# Altium integrated library Linear Technology Power Management Switching Regulator LTC1174-LTC3901.IntLib: 2647 symbols (part 236 of 364)
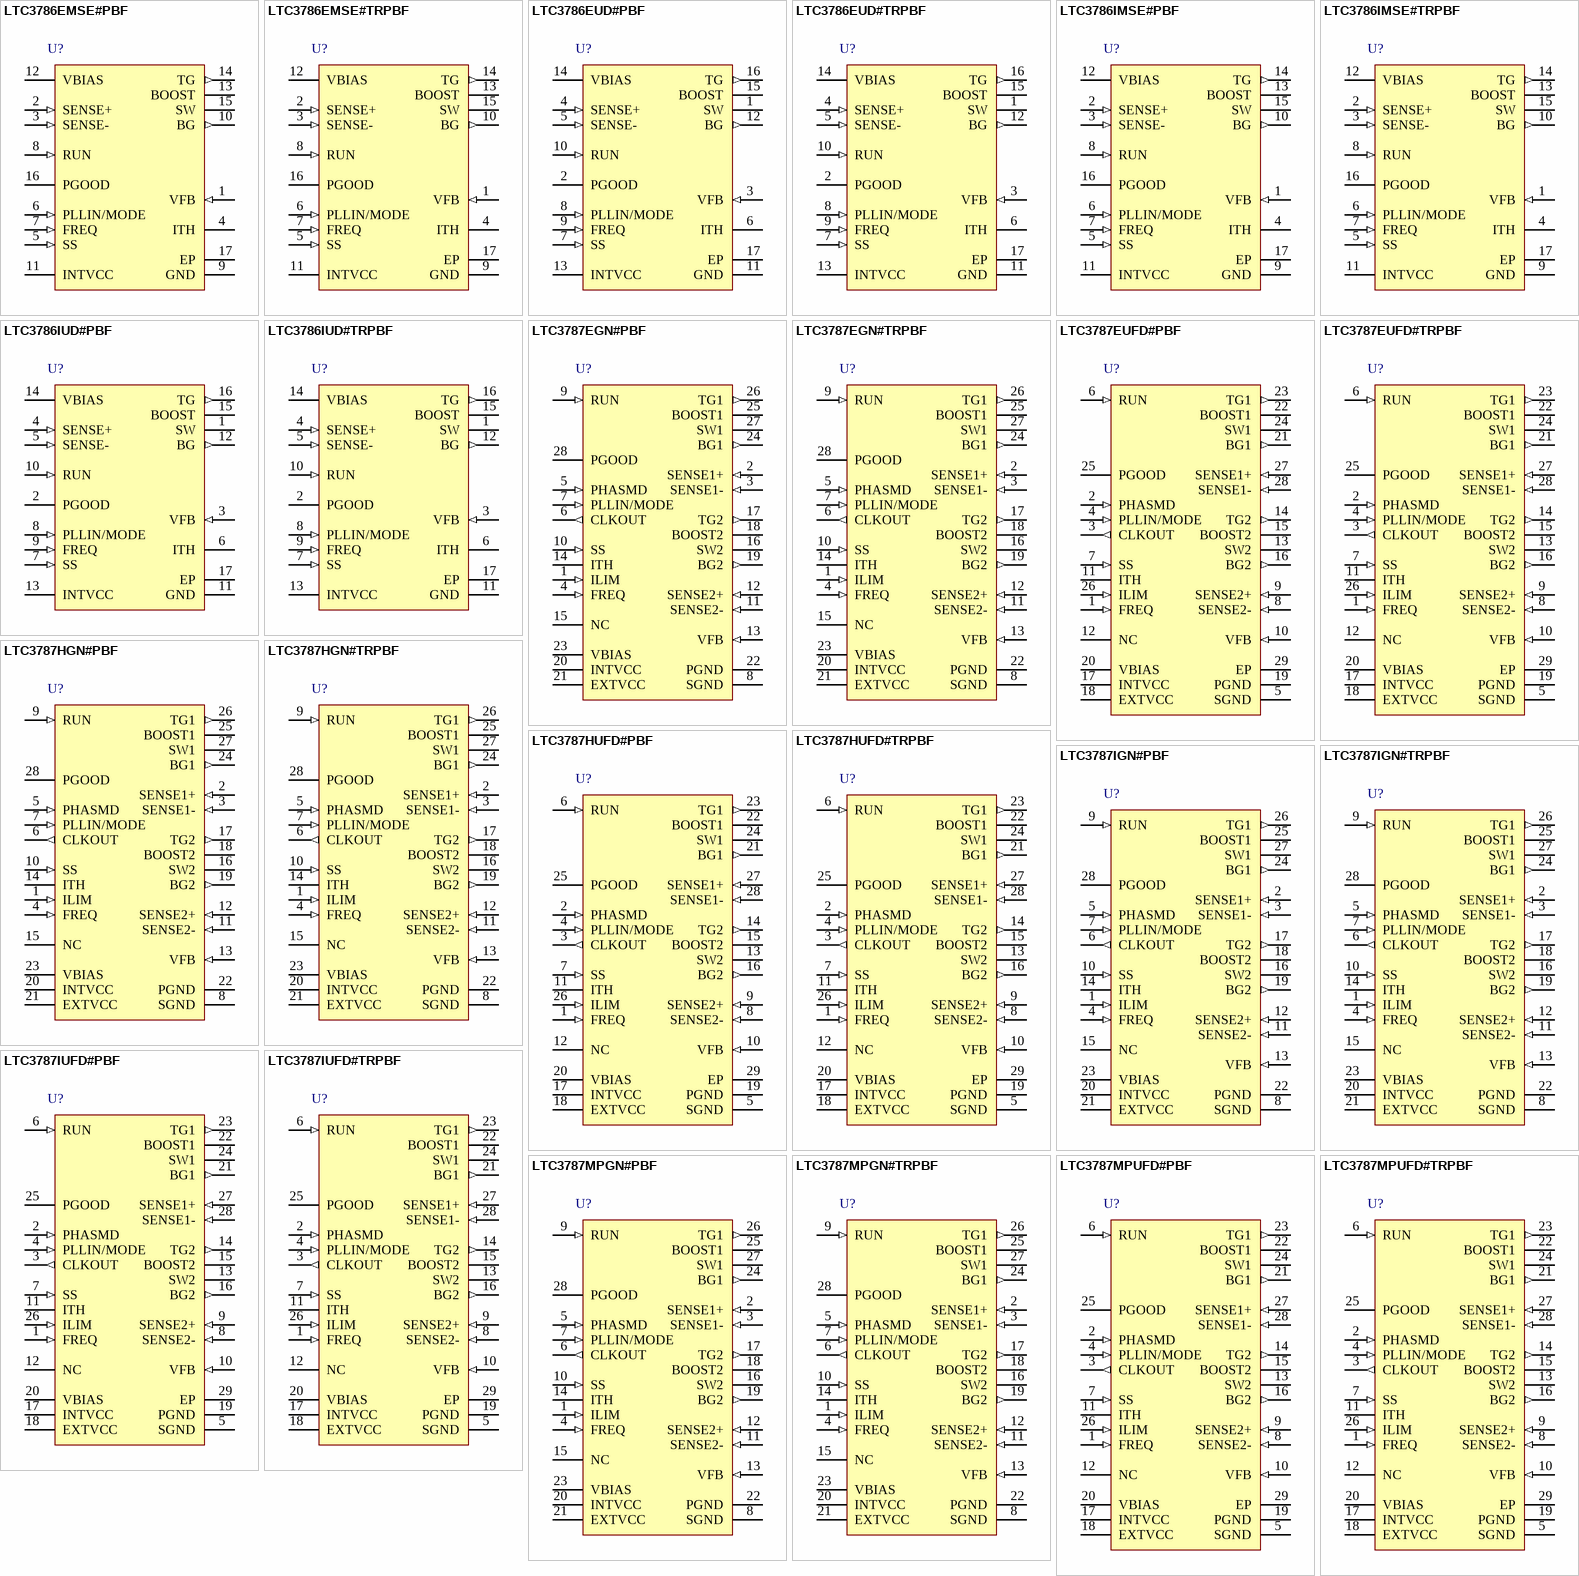
[diagram p237: symbols LTC3786EMSE#PBF to LTC3787MPUFD#TRPBF]

## LTC3787HUFD#PBF
designator U?
2-Phase, Sync Boost Controller, 28-pin QFN (UFD-28), -40 to 150 degC, Pb-Free; Manufacturer: Linear Technology; PartNumber: LTC3787HUFD#PBF; Frequency Sync Range: 75kHz - 850kHz; Number of Outputs: 1; DatasheetVersion: Rev. C; PackageVersion: Rev. B, 06/2010; PackageReference: UFD-28; PackageDescription: 28-Pin Plastic QFN, Body 5 x 4 mm, Pitch 0.5 mm; Supplier 1: Digi-Key; Supplier Part Number 1: LTC3787HUFD#PBF-ND; Supplier 2: Newark; Supplier Part Number 2: 94T1267; RoHS: TRUE; Mounting Technology: Surface Mount; Code_JEDEC: MO-220; ComponentLink1Description: Manufacturer URL; ComponentLink1URL: http://www.linear.com/; ComponentLink2Description: Datasheet; ComponentLink2URL: http://cds.linear.com/docs/en/datasheet/3787fc.pdf; ComponentLink3Description: Package Specification; ComponentLink3URL: http://cds.linear.com/docs/en/packaging/QFN_28_05-08-1712.pdf
footprint LT-UFD-28_N (QFN, 28-Leads, Body 5.1x4.1mm, Pitch 0.5mm, Thermal Pad 3.65x2.65mm, IPC Medium Density)
footprint LT-UFD-28_L (QFN, 28-Leads, Body 5.1x4.1mm, Pitch 0.5mm, Thermal Pad 3.65x2.65mm, IPC High Density)
footprint LT-UFD-28_M (QFN, 28-Leads, Body 5.1x4.1mm, Pitch 0.5mm, Thermal Pad 3.65x2.65mm, IPC Low Density)
pins: 1 FREQ (in) "Frequency Control Pin for the Internal  VCO. Connecting the pin to GND forces the VCO to a fixed  low frequency of 350kHz. Connecting the pin to INTVCC  forces the VCO to a fixed high frequency of 535kHz. The  frequency can (See Datasheet)", 2 PHASMD (in) "This pin can be floated, tied to  SGND, or tied to INTVCC to program the phase relationship  between the rising edges of BG1 and BG2, as well as the  phase relationship between BG1 and CLKOUT.", 3 CLKOUT (out) "A Digital Output Used for Daisychaining Multiple LTC3787 ICs in Multiphase Systems. The  PHASMD pin voltage controls the relationship between BG1  and CLKOUT. This pin swings between SGND and INTVCC.", 4 PLLIN/MODE (in) "External Synchronization Input  to Phase Detector and Forced Continuous Mode Input.  When an external clock is applied to this pin, it will force  the controller into forced continuous mode of operation  and the phase-locked (See Datasheet)", 5 SGND (power) "Signal Ground. All small-signal  components and compensation components should  connect to this ground, which in turn connects to PGND  at a single point.", 6 RUN (in) "Run Control Input. Forcing this pin  below 1.28V shuts down the controller. Forcing this pin  below 0.7V shuts down the entire LTC3787, reducing  quiescent current to approximately 8uA. An external  resistor divider (See Datasheet)", 7 SS (in) "Output Soft-Start Input. A capacitor to  ground at this pin sets the ramp rate of the output voltage  during start-up.", 8 SENSE2- (in) "Negative Current Sense Comparator Input. The (-) input to the  current comparator is normally connected to the negative  terminal of a current sense resistor connected in series  with the inductor", 9 SENSE2+ (in) "Positive Current Sense Comparator Input. The (+) input to the  current comparator is normally connected to the positive  terminal of a current sense resistor. The current sense resistor is normally placed at the input of the (See Datasheet)", 10 VFB (in) "Error Amplifier Feedback Input. This  pin receives the remotely sensed feedback voltage from  an external resistive divider connected across the output.", 11 ITH "Current Control Threshold and Error  Amplifier Compensation Point. The voltage on this pin sets  the current trip threshold.", 12 NC "No Connect.", 13 SW2 "Switch Node.  Connect to the source of the synchronous N-channel  MOSFET, the drain of the main N-channel MOSFET and  the inductor", 14 TG2 (out) "Top Gate. Connect to the gate of the synchronous N-channel MOSFET", 15 BOOST2 "Floating power supply for the synchronous N-channel MOSFET.  Bypass to SW with a capacitor and supply with a Schottky  diode connected to INTVCC.", 16 BG2 (out) "Bottom Gate.  Connect to the gate of the main N-channel MOSFET.", 17 INTVCC (power) "Output of Internal 5.4V LDO.  Power supply for control circuits and gate drivers. Decouple this pin to GND with a minimum 4.7uF low ESR  ceramic capacitor.", 18 EXTVCC (power) "External Power Input. When this  pin is between 4.8V and 6V, an internal switch bypasses  the internal regulator and supply power to INTVCC directly  from EXTVCC. Do not float this pin. It can be connected to  ground when (See Datasheet)", 19 PGND (power) "Driver Power Ground. Connects  to the sources of bottom (main) N-channel MOSFETs and  the (-) terminal(s) of CIN and COUT.", 20 VBIAS (power) "Main Supply Pin. It is normally  tied to the input supply VIN or to the output of the boost  converter. A bypass capacitor should be tied between this  pin and the signal ground pin. The operating voltage range  on this pin (See Datasheet)", 21 BG1 (out) "Bottom Gate.  Connect to the gate of the main N-channel MOSFET.", 22 BOOST1 "Floating power supply for the synchronous N-channel MOSFET.  Bypass to SW with a capacitor and supply with a Schottky  diode connected to INTVCC.", 23 TG1 (out) "Top Gate. Connect to the gate of the synchronous N-channel MOSFET", 24 SW1 "Switch Node.  Connect to the source of the synchronous N-channel  MOSFET, the drain of the main N-channel MOSFET and  the inductor", 25 PGOOD (oc) "Power Good Indicator. Open-drain  logic output that is pulled to ground when the output voltage is more than +/-10 % away from the regulated output  voltage. To avoid false trips the output voltage must be  outside the range (See Datasheet)", 26 ILIM (in) "Current Comparator Sense Voltage  Range Input. This pin is used to set the peak current  sense voltage in the current comparator. Connect this pin  to SGND, open, and INTVCC to set the peak current sense  voltage to 50mV, (See Datasheet)", 27 SENSE1+ (in) "Positive Current Sense Comparator Input. The (+) input to the  current comparator is normally connected to the positive  terminal of a current sense resistor. The current sense resistor is normally placed at the input of the (See Datasheet)", 28 SENSE1- (in) "Negative Current Sense Comparator Input. The (-) input to the  current comparator is normally connected to the negative  terminal of a current sense resistor connected in series  with the inductor", 29 EP (power) "Must  be soldered to the PCB for rated thermal performance."

## LTC3787HUFD#TRPBF
designator U?
2-Phase, Sync Boost Controller, 28-pin QFN (UFD-28), -40 to 150 degC, Pb-Free, Tape and Reel; Manufacturer: Linear Technology; PartNumber: LTC3787HUFD#TRPBF; Frequency Sync Range: 75kHz - 850kHz; Number of Outputs: 1; DatasheetVersion: Rev. C; PackageVersion: Rev. B, 06/2010; PackageReference: UFD-28; PackageDescription: 28-Pin Plastic QFN, Body 5 x 4 mm, Pitch 0.5 mm; Supplier 1: Digi-Key; Supplier Part Number 1: LTC3787HUFD#TRPBF-ND; Supplier 2: Newark; Supplier Part Number 2: 94T1268; Packing: Tape and Reel; RoHS: TRUE; Mounting Technology: Surface Mount; Code_JEDEC: MO-220; ComponentLink1Description: Manufacturer URL; ComponentLink1URL: http://www.linear.com/; ComponentLink2Description: Datasheet; ComponentLink2URL: http://cds.linear.com/docs/en/datasheet/3787fc.pdf; ComponentLink3Description: Package Specification; ComponentLink3URL: http://cds.linear.com/docs/en/packaging/QFN_28_05-08-1712.pdf
footprint LT-UFD-28_N (QFN, 28-Leads, Body 5.1x4.1mm, Pitch 0.5mm, Thermal Pad 3.65x2.65mm, IPC Medium Density)
footprint LT-UFD-28_L (QFN, 28-Leads, Body 5.1x4.1mm, Pitch 0.5mm, Thermal Pad 3.65x2.65mm, IPC High Density)
footprint LT-UFD-28_M (QFN, 28-Leads, Body 5.1x4.1mm, Pitch 0.5mm, Thermal Pad 3.65x2.65mm, IPC Low Density)
pins: 1 FREQ (in) "Frequency Control Pin for the Internal  VCO. Connecting the pin to GND forces the VCO to a fixed  low frequency of 350kHz. Connecting the pin to INTVCC  forces the VCO to a fixed high frequency of 535kHz. The  frequency can (See Datasheet)", 2 PHASMD (in) "This pin can be floated, tied to  SGND, or tied to INTVCC to program the phase relationship  between the rising edges of BG1 and BG2, as well as the  phase relationship between BG1 and CLKOUT.", 3 CLKOUT (out) "A Digital Output Used for Daisychaining Multiple LTC3787 ICs in Multiphase Systems. The  PHASMD pin voltage controls the relationship between BG1  and CLKOUT. This pin swings between SGND and INTVCC.", 4 PLLIN/MODE (in) "External Synchronization Input  to Phase Detector and Forced Continuous Mode Input.  When an external clock is applied to this pin, it will force  the controller into forced continuous mode of operation  and the phase-locked (See Datasheet)", 5 SGND (power) "Signal Ground. All small-signal  components and compensation components should  connect to this ground, which in turn connects to PGND  at a single point.", 6 RUN (in) "Run Control Input. Forcing this pin  below 1.28V shuts down the controller. Forcing this pin  below 0.7V shuts down the entire LTC3787, reducing  quiescent current to approximately 8uA. An external  resistor divider (See Datasheet)", 7 SS (in) "Output Soft-Start Input. A capacitor to  ground at this pin sets the ramp rate of the output voltage  during start-up.", 8 SENSE2- (in) "Negative Current Sense Comparator Input. The (-) input to the  current comparator is normally connected to the negative  terminal of a current sense resistor connected in series  with the inductor", 9 SENSE2+ (in) "Positive Current Sense Comparator Input. The (+) input to the  current comparator is normally connected to the positive  terminal of a current sense resistor. The current sense resistor is normally placed at the input of the (See Datasheet)", 10 VFB (in) "Error Amplifier Feedback Input. This  pin receives the remotely sensed feedback voltage from  an external resistive divider connected across the output.", 11 ITH "Current Control Threshold and Error  Amplifier Compensation Point. The voltage on this pin sets  the current trip threshold.", 12 NC "No Connect.", 13 SW2 "Switch Node.  Connect to the source of the synchronous N-channel  MOSFET, the drain of the main N-channel MOSFET and  the inductor", 14 TG2 (out) "Top Gate. Connect to the gate of the synchronous N-channel MOSFET", 15 BOOST2 "Floating power supply for the synchronous N-channel MOSFET.  Bypass to SW with a capacitor and supply with a Schottky  diode connected to INTVCC.", 16 BG2 (out) "Bottom Gate.  Connect to the gate of the main N-channel MOSFET.", 17 INTVCC (power) "Output of Internal 5.4V LDO.  Power supply for control circuits and gate drivers. Decouple this pin to GND with a minimum 4.7uF low ESR  ceramic capacitor.", 18 EXTVCC (power) "External Power Input. When this  pin is between 4.8V and 6V, an internal switch bypasses  the internal regulator and supply power to INTVCC directly  from EXTVCC. Do not float this pin. It can be connected to  ground when (See Datasheet)", 19 PGND (power) "Driver Power Ground. Connects  to the sources of bottom (main) N-channel MOSFETs and  the (-) terminal(s) of CIN and COUT.", 20 VBIAS (power) "Main Supply Pin. It is normally  tied to the input supply VIN or to the output of the boost  converter. A bypass capacitor should be tied between this  pin and the signal ground pin. The operating voltage range  on this pin (See Datasheet)", 21 BG1 (out) "Bottom Gate.  Connect to the gate of the main N-channel MOSFET.", 22 BOOST1 "Floating power supply for the synchronous N-channel MOSFET.  Bypass to SW with a capacitor and supply with a Schottky  diode connected to INTVCC.", 23 TG1 (out) "Top Gate. Connect to the gate of the synchronous N-channel MOSFET", 24 SW1 "Switch Node.  Connect to the source of the synchronous N-channel  MOSFET, the drain of the main N-channel MOSFET and  the inductor", 25 PGOOD (oc) "Power Good Indicator. Open-drain  logic output that is pulled to ground when the output voltage is more than +/-10 % away from the regulated output  voltage. To avoid false trips the output voltage must be  outside the range (See Datasheet)", 26 ILIM (in) "Current Comparator Sense Voltage  Range Input. This pin is used to set the peak current  sense voltage in the current comparator. Connect this pin  to SGND, open, and INTVCC to set the peak current sense  voltage to 50mV, (See Datasheet)", 27 SENSE1+ (in) "Positive Current Sense Comparator Input. The (+) input to the  current comparator is normally connected to the positive  terminal of a current sense resistor. The current sense resistor is normally placed at the input of the (See Datasheet)", 28 SENSE1- (in) "Negative Current Sense Comparator Input. The (-) input to the  current comparator is normally connected to the negative  terminal of a current sense resistor connected in series  with the inductor", 29 EP (power) "Must  be soldered to the PCB for rated thermal performance."

## LTC3787IGN#PBF
designator U?
2-Phase, Sync Boost Controller, 28-pin SOP (GN-28), -40 to 125 degC, Pb-Free; Manufacturer: Linear Technology; PartNumber: LTC3787IGN#PBF; Frequency Sync Range: 75kHz - 850kHz; Number of Outputs: 1; DatasheetVersion: Rev. C; PackageVersion: Rev. B, 03/2012; PackageReference: GN-28; PackageDescription: 28-Pin Plastic SSOP, Body 9.9 x 3.9 mm, Pitch 0.635 mm; Supplier 1: Digi-Key; Supplier Part Number 1: LTC3787IGN#PBF-ND; RoHS: TRUE; Mounting Technology: Surface Mount; ComponentLink1Description: Manufacturer URL; ComponentLink1URL: http://www.linear.com/; ComponentLink2Description: Datasheet; ComponentLink2URL: http://cds.linear.com/docs/en/datasheet/3787fc.pdf; ComponentLink3Description: Package Specification; ComponentLink3URL: http://cds.linear.com/docs/en/packaging/05081641_B_GN28.pdf
footprint LT-GN-28_N (SOP, 28-Leads, Body 9.98x3.98mm, Pitch 0.635mm, IPC Medium Density)
footprint LT-GN-28_L (SOP, 28-Leads, Body 9.98x3.98mm, Pitch 0.635mm, IPC High Density)
footprint LT-GN-28_M (SOP, 28-Leads, Body 9.98x3.98mm, Pitch 0.635mm, IPC Low Density)
pins: 1 ILIM (in) "Current Comparator Sense Voltage Range Input. This pin is used to set the peak current sense voltage in the current comparator. Connect this pin to SGND, open, and INTVCC to set the peak current sense voltage to 50mV, 75mV (See Datasheet)", 2 SENSE1+ (in) "Positive Current Sense Comparator Input. The (+) input to the current comparator is normally connected to the positive terminal of a current sense resistor. The current sense resistor is normally placed at the input of the (See Datasheet)", 3 SENSE1- (in) "Negative Current Sense Comparator Input. The (-) input to the current comparator is normally connected to the negative terminal of a current sense resistor connected in series with the inductor.", 4 FREQ (in) "Frequency Control Pin for the Internal VCO. Connecting the pin to GND forces the VCO to a fixed low frequency of 350kHz. Connecting the pin to INTVCC forces the VCO to a fixed high frequency of 535kHz. The frequency can be (See Datasheet)", 5 PHASMD (in) "This pin can be floated, tied to SGND, or tied to INTVCC to program the phase relationship between the rising edges of BG1 and BG2, as well as the phase relationship between BG1 and CLKOUT.", 6 CLKOUT (out) "A Digital Output Used for Daisychaining Multiple LTC3787 ICs in Multiphase Systems. The PHASMD pin voltage controls the relationship between BG1 and CLKOUT. This pin swings between SGND and INTVCC.", 7 PLLIN/MODE (in), 8 SGND (power) "Signal Ground. All small-signal components and compensation components should connect to this ground, which in turn connects to PGND at a single point.", 9 RUN (in) "Run Control Input. Forcing this pin below 1.28V shuts down the controller. Forcing this pin below 0.7V shuts down the entire LTC3787, reducing quiescent current to approximately 8uA. An external resistor divider connected to (See Datasheet)", 10 SS (in) "Output Soft-Start Input. A capacitor to ground at this pin sets the ramp rate of the output voltage during start-up.", 11 SENSE2- (in) "Negative Current Sense Comparator Input. The (-) input to the current comparator is normally connected to the negative terminal of a current sense resistor connected in series with the inductor.", 12 SENSE2+ (in) "Positive Current Sense Comparator Input. The (+) input to the current comparator is normally connected to the positive terminal of a current sense resistor. The current sense resistor is normally placed at the input of the (See Datasheet)", 13 VFB (in) "Error Amplifier Feedback Input. This pin receives the remotely sensed feedback voltage from an external resistive divider connected across the output.", 14 ITH "Current Control Threshold and Error Amplifier Compensation Point. The voltage on this pin sets the current trip threshold.", 15 NC "No Connect.", 16 SW2 "Switch Node. Connect to the source of the synchronous N-channel MOSFET, the drain of the main N-channel MOSFET and the inductor.", 17 TG2 (out) "Top Gate. Connect to the gate of the synchronous N-channel MOSFET.", 18 BOOST2 "Floating power supply for the synchronous N-channel MOSFET. Bypass to SW with a capacitor and supply with a Schottky diode connected to INTVCC.", 19 BG2 (out) "Bottom Gate. Connect to the gate of the main N-channel MOSFET.", 20 INTVCC (power) "Output of Internal 5.4V LDO. Power supply for control circuits and gate drivers. Decouple this pin to GND with a minimum 4.7uF low ESR ceramic capacitor.", 21 EXTVCC (power) "External Power Input. When this pin is between 4.8V and 6V, an internal switch bypasses the internal regulator and supply power to INTVCC directly from EXTVCC. Do not float this pin. It can be connected to ground when not (See Datasheet)", 22 PGND (power) "Driver Power Ground. Connects to the sources of bottom (main) N-channel MOSFETs and the (-) terminal(s) of CIN and COUT.", 23 VBIAS (power) "Main Supply Pin. It is normally tied to the input supply VIN or to the output of the boost converter. A bypass capacitor should be tied between this pin and the signal ground pin. The operating voltage range on this pin is 4.(See Datasheet)", 24 BG1 (out) "Bottom Gate. Connect to the gate of the main N-channel MOSFET.", 25 BOOST1 "Floating power supply for the synchronous N-channel MOSFET. Bypass to SW with a capacitor and supply with a Schottky diode connected to INTVCC.", 26 TG1 (out) "Top Gate. Connect to the gate of the synchronous N-channel MOSFET.", 27 SW1 "Switch Node. Connect to the source of the synchronous N-channel MOSFET, the drain of the main N-channel MOSFET and the inductor.", 28 PGOOD (oc) "Power Good Indicator. Open-drain logic output that is pulled to ground when the output voltage is more than +/-10 % away from the regulated output voltage. To avoid false trips the output voltage must be outside the range (See Datasheet)"

## LTC3787IGN#TRPBF
designator U?
2-Phase, Sync Boost Controller, 28-pin SOP (GN-28), -40 to 125 degC, Pb-Free, Tape and Reel; Manufacturer: Linear Technology; PartNumber: LTC3787IGN#TRPBF; Frequency Sync Range: 75kHz - 850kHz; Number of Outputs: 1; DatasheetVersion: Rev. C; PackageVersion: Rev. B, 03/2012; PackageReference: GN-28; PackageDescription: 28-Pin Plastic SSOP, Body 9.9 x 3.9 mm, Pitch 0.635 mm; Supplier 1: Digi-Key; Supplier Part Number 1: LTC3787IGN#TRPBF-ND; Packing: Tape and Reel; RoHS: TRUE; Mounting Technology: Surface Mount; ComponentLink1Description: Manufacturer URL; ComponentLink1URL: http://www.linear.com/; ComponentLink2Description: Datasheet; ComponentLink2URL: http://cds.linear.com/docs/en/datasheet/3787fc.pdf; ComponentLink3Description: Package Specification; ComponentLink3URL: http://cds.linear.com/docs/en/packaging/05081641_B_GN28.pdf
footprint LT-GN-28_N (SOP, 28-Leads, Body 9.98x3.98mm, Pitch 0.635mm, IPC Medium Density)
footprint LT-GN-28_L (SOP, 28-Leads, Body 9.98x3.98mm, Pitch 0.635mm, IPC High Density)
footprint LT-GN-28_M (SOP, 28-Leads, Body 9.98x3.98mm, Pitch 0.635mm, IPC Low Density)
pins: 1 ILIM (in) "Current Comparator Sense Voltage Range Input. This pin is used to set the peak current sense voltage in the current comparator. Connect this pin to SGND, open, and INTVCC to set the peak current sense voltage to 50mV, 75mV (See Datasheet)", 2 SENSE1+ (in) "Positive Current Sense Comparator Input. The (+) input to the current comparator is normally connected to the positive terminal of a current sense resistor. The current sense resistor is normally placed at the input of the (See Datasheet)", 3 SENSE1- (in) "Negative Current Sense Comparator Input. The (-) input to the current comparator is normally connected to the negative terminal of a current sense resistor connected in series with the inductor.", 4 FREQ (in) "Frequency Control Pin for the Internal VCO. Connecting the pin to GND forces the VCO to a fixed low frequency of 350kHz. Connecting the pin to INTVCC forces the VCO to a fixed high frequency of 535kHz. The frequency can be (See Datasheet)", 5 PHASMD (in) "This pin can be floated, tied to SGND, or tied to INTVCC to program the phase relationship between the rising edges of BG1 and BG2, as well as the phase relationship between BG1 and CLKOUT.", 6 CLKOUT (out) "A Digital Output Used for Daisychaining Multiple LTC3787 ICs in Multiphase Systems. The PHASMD pin voltage controls the relationship between BG1 and CLKOUT. This pin swings between SGND and INTVCC.", 7 PLLIN/MODE (in), 8 SGND (power) "Signal Ground. All small-signal components and compensation components should connect to this ground, which in turn connects to PGND at a single point.", 9 RUN (in) "Run Control Input. Forcing this pin below 1.28V shuts down the controller. Forcing this pin below 0.7V shuts down the entire LTC3787, reducing quiescent current to approximately 8uA. An external resistor divider connected to (See Datasheet)", 10 SS (in) "Output Soft-Start Input. A capacitor to ground at this pin sets the ramp rate of the output voltage during start-up.", 11 SENSE2- (in) "Negative Current Sense Comparator Input. The (-) input to the current comparator is normally connected to the negative terminal of a current sense resistor connected in series with the inductor.", 12 SENSE2+ (in) "Positive Current Sense Comparator Input. The (+) input to the current comparator is normally connected to the positive terminal of a current sense resistor. The current sense resistor is normally placed at the input of the (See Datasheet)", 13 VFB (in) "Error Amplifier Feedback Input. This pin receives the remotely sensed feedback voltage from an external resistive divider connected across the output.", 14 ITH "Current Control Threshold and Error Amplifier Compensation Point. The voltage on this pin sets the current trip threshold.", 15 NC "No Connect.", 16 SW2 "Switch Node. Connect to the source of the synchronous N-channel MOSFET, the drain of the main N-channel MOSFET and the inductor.", 17 TG2 (out) "Top Gate. Connect to the gate of the synchronous N-channel MOSFET.", 18 BOOST2 "Floating power supply for the synchronous N-channel MOSFET. Bypass to SW with a capacitor and supply with a Schottky diode connected to INTVCC.", 19 BG2 (out) "Bottom Gate. Connect to the gate of the main N-channel MOSFET.", 20 INTVCC (power) "Output of Internal 5.4V LDO. Power supply for control circuits and gate drivers. Decouple this pin to GND with a minimum 4.7uF low ESR ceramic capacitor.", 21 EXTVCC (power) "External Power Input. When this pin is between 4.8V and 6V, an internal switch bypasses the internal regulator and supply power to INTVCC directly from EXTVCC. Do not float this pin. It can be connected to ground when not (See Datasheet)", 22 PGND (power) "Driver Power Ground. Connects to the sources of bottom (main) N-channel MOSFETs and the (-) terminal(s) of CIN and COUT.", 23 VBIAS (power) "Main Supply Pin. It is normally tied to the input supply VIN or to the output of the boost converter. A bypass capacitor should be tied between this pin and the signal ground pin. The operating voltage range on this pin is 4.(See Datasheet)", 24 BG1 (out) "Bottom Gate. Connect to the gate of the main N-channel MOSFET.", 25 BOOST1 "Floating power supply for the synchronous N-channel MOSFET. Bypass to SW with a capacitor and supply with a Schottky diode connected to INTVCC.", 26 TG1 (out) "Top Gate. Connect to the gate of the synchronous N-channel MOSFET.", 27 SW1 "Switch Node. Connect to the source of the synchronous N-channel MOSFET, the drain of the main N-channel MOSFET and the inductor.", 28 PGOOD (oc) "Power Good Indicator. Open-drain logic output that is pulled to ground when the output voltage is more than +/-10 % away from the regulated output voltage. To avoid false trips the output voltage must be outside the range (See Datasheet)"

## LTC3787IUFD#PBF
designator U?
2-Phase, Sync Boost Controller, 28-pin QFN (UFD-28), -40 to 125 degC, Pb-Free; Manufacturer: Linear Technology; PartNumber: LTC3787IUFD#PBF; Frequency Sync Range: 75kHz - 850kHz; Number of Outputs: 1; DatasheetVersion: Rev. C; PackageVersion: Rev. B, 06/2010; PackageReference: UFD-28; PackageDescription: 28-Pin Plastic QFN, Body 5 x 4 mm, Pitch 0.5 mm; Supplier 1: Digi-Key; Supplier Part Number 1: LTC3787IUFD#PBF-ND; RoHS: TRUE; Mounting Technology: Surface Mount; Code_JEDEC: MO-220; ComponentLink1Description: Manufacturer URL; ComponentLink1URL: http://www.linear.com/; ComponentLink2Description: Datasheet; ComponentLink2URL: http://cds.linear.com/docs/en/datasheet/3787fc.pdf; ComponentLink3Description: Package Specification; ComponentLink3URL: http://cds.linear.com/docs/en/packaging/QFN_28_05-08-1712.pdf
footprint LT-UFD-28_N (QFN, 28-Leads, Body 5.1x4.1mm, Pitch 0.5mm, Thermal Pad 3.65x2.65mm, IPC Medium Density)
footprint LT-UFD-28_L (QFN, 28-Leads, Body 5.1x4.1mm, Pitch 0.5mm, Thermal Pad 3.65x2.65mm, IPC High Density)
footprint LT-UFD-28_M (QFN, 28-Leads, Body 5.1x4.1mm, Pitch 0.5mm, Thermal Pad 3.65x2.65mm, IPC Low Density)
pins: 1 FREQ (in) "Frequency Control Pin for the Internal  VCO. Connecting the pin to GND forces the VCO to a fixed  low frequency of 350kHz. Connecting the pin to INTVCC  forces the VCO to a fixed high frequency of 535kHz. The  frequency can (See Datasheet)", 2 PHASMD (in) "This pin can be floated, tied to  SGND, or tied to INTVCC to program the phase relationship  between the rising edges of BG1 and BG2, as well as the  phase relationship between BG1 and CLKOUT.", 3 CLKOUT (out) "A Digital Output Used for Daisychaining Multiple LTC3787 ICs in Multiphase Systems. The  PHASMD pin voltage controls the relationship between BG1  and CLKOUT. This pin swings between SGND and INTVCC.", 4 PLLIN/MODE (in) "External Synchronization Input  to Phase Detector and Forced Continuous Mode Input.  When an external clock is applied to this pin, it will force  the controller into forced continuous mode of operation  and the phase-locked (See Datasheet)", 5 SGND (power) "Signal Ground. All small-signal  components and compensation components should  connect to this ground, which in turn connects to PGND  at a single point.", 6 RUN (in) "Run Control Input. Forcing this pin  below 1.28V shuts down the controller. Forcing this pin  below 0.7V shuts down the entire LTC3787, reducing  quiescent current to approximately 8uA. An external  resistor divider (See Datasheet)", 7 SS (in) "Output Soft-Start Input. A capacitor to  ground at this pin sets the ramp rate of the output voltage  during start-up.", 8 SENSE2- (in) "Negative Current Sense Comparator Input. The (-) input to the  current comparator is normally connected to the negative  terminal of a current sense resistor connected in series  with the inductor", 9 SENSE2+ (in) "Positive Current Sense Comparator Input. The (+) input to the  current comparator is normally connected to the positive  terminal of a current sense resistor. The current sense resistor is normally placed at the input of the (See Datasheet)", 10 VFB (in) "Error Amplifier Feedback Input. This  pin receives the remotely sensed feedback voltage from  an external resistive divider connected across the output.", 11 ITH "Current Control Threshold and Error  Amplifier Compensation Point. The voltage on this pin sets  the current trip threshold.", 12 NC "No Connect.", 13 SW2 "Switch Node.  Connect to the source of the synchronous N-channel  MOSFET, the drain of the main N-channel MOSFET and  the inductor", 14 TG2 (out) "Top Gate. Connect to the gate of the synchronous N-channel MOSFET", 15 BOOST2 "Floating power supply for the synchronous N-channel MOSFET.  Bypass to SW with a capacitor and supply with a Schottky  diode connected to INTVCC.", 16 BG2 (out) "Bottom Gate.  Connect to the gate of the main N-channel MOSFET.", 17 INTVCC (power) "Output of Internal 5.4V LDO.  Power supply for control circuits and gate drivers. Decouple this pin to GND with a minimum 4.7uF low ESR  ceramic capacitor.", 18 EXTVCC (power) "External Power Input. When this  pin is between 4.8V and 6V, an internal switch bypasses  the internal regulator and supply power to INTVCC directly  from EXTVCC. Do not float this pin. It can be connected to  ground when (See Datasheet)", 19 PGND (power) "Driver Power Ground. Connects  to the sources of bottom (main) N-channel MOSFETs and  the (-) terminal(s) of CIN and COUT.", 20 VBIAS (power) "Main Supply Pin. It is normally  tied to the input supply VIN or to the output of the boost  converter. A bypass capacitor should be tied between this  pin and the signal ground pin. The operating voltage range  on this pin (See Datasheet)", 21 BG1 (out) "Bottom Gate.  Connect to the gate of the main N-channel MOSFET.", 22 BOOST1 "Floating power supply for the synchronous N-channel MOSFET.  Bypass to SW with a capacitor and supply with a Schottky  diode connected to INTVCC.", 23 TG1 (out) "Top Gate. Connect to the gate of the synchronous N-channel MOSFET", 24 SW1 "Switch Node.  Connect to the source of the synchronous N-channel  MOSFET, the drain of the main N-channel MOSFET and  the inductor", 25 PGOOD (oc) "Power Good Indicator. Open-drain  logic output that is pulled to ground when the output voltage is more than +/-10 % away from the regulated output  voltage. To avoid false trips the output voltage must be  outside the range (See Datasheet)", 26 ILIM (in) "Current Comparator Sense Voltage  Range Input. This pin is used to set the peak current  sense voltage in the current comparator. Connect this pin  to SGND, open, and INTVCC to set the peak current sense  voltage to 50mV, (See Datasheet)", 27 SENSE1+ (in) "Positive Current Sense Comparator Input. The (+) input to the  current comparator is normally connected to the positive  terminal of a current sense resistor. The current sense resistor is normally placed at the input of the (See Datasheet)", 28 SENSE1- (in) "Negative Current Sense Comparator Input. The (-) input to the  current comparator is normally connected to the negative  terminal of a current sense resistor connected in series  with the inductor", 29 EP (power) "Must  be soldered to the PCB for rated thermal performance."

## LTC3787IUFD#TRPBF
designator U?
2-Phase, Sync Boost Controller, 28-pin QFN (UFD-28), -40 to 125 degC, Pb-Free, Tape and Reel; Manufacturer: Linear Technology; PartNumber: LTC3787IUFD#TRPBF; Frequency Sync Range: 75kHz - 850kHz; Number of Outputs: 1; DatasheetVersion: Rev. C; PackageVersion: Rev. B, 06/2010; PackageReference: UFD-28; PackageDescription: 28-Pin Plastic QFN, Body 5 x 4 mm, Pitch 0.5 mm; Supplier 1: Digi-Key; Supplier Part Number 1: LTC3787IUFD#TRPBF-ND; Packing: Tape and Reel; RoHS: TRUE; Mounting Technology: Surface Mount; Code_JEDEC: MO-220; ComponentLink1Description: Manufacturer URL; ComponentLink1URL: http://www.linear.com/; ComponentLink2Description: Datasheet; ComponentLink2URL: http://cds.linear.com/docs/en/datasheet/3787fc.pdf; ComponentLink3Description: Package Specification; ComponentLink3URL: http://cds.linear.com/docs/en/packaging/QFN_28_05-08-1712.pdf
footprint LT-UFD-28_N (QFN, 28-Leads, Body 5.1x4.1mm, Pitch 0.5mm, Thermal Pad 3.65x2.65mm, IPC Medium Density)
footprint LT-UFD-28_L (QFN, 28-Leads, Body 5.1x4.1mm, Pitch 0.5mm, Thermal Pad 3.65x2.65mm, IPC High Density)
footprint LT-UFD-28_M (QFN, 28-Leads, Body 5.1x4.1mm, Pitch 0.5mm, Thermal Pad 3.65x2.65mm, IPC Low Density)
pins: 1 FREQ (in) "Frequency Control Pin for the Internal  VCO. Connecting the pin to GND forces the VCO to a fixed  low frequency of 350kHz. Connecting the pin to INTVCC  forces the VCO to a fixed high frequency of 535kHz. The  frequency can (See Datasheet)", 2 PHASMD (in) "This pin can be floated, tied to  SGND, or tied to INTVCC to program the phase relationship  between the rising edges of BG1 and BG2, as well as the  phase relationship between BG1 and CLKOUT.", 3 CLKOUT (out) "A Digital Output Used for Daisychaining Multiple LTC3787 ICs in Multiphase Systems. The  PHASMD pin voltage controls the relationship between BG1  and CLKOUT. This pin swings between SGND and INTVCC.", 4 PLLIN/MODE (in) "External Synchronization Input  to Phase Detector and Forced Continuous Mode Input.  When an external clock is applied to this pin, it will force  the controller into forced continuous mode of operation  and the phase-locked (See Datasheet)", 5 SGND (power) "Signal Ground. All small-signal  components and compensation components should  connect to this ground, which in turn connects to PGND  at a single point.", 6 RUN (in) "Run Control Input. Forcing this pin  below 1.28V shuts down the controller. Forcing this pin  below 0.7V shuts down the entire LTC3787, reducing  quiescent current to approximately 8uA. An external  resistor divider (See Datasheet)", 7 SS (in) "Output Soft-Start Input. A capacitor to  ground at this pin sets the ramp rate of the output voltage  during start-up.", 8 SENSE2- (in) "Negative Current Sense Comparator Input. The (-) input to the  current comparator is normally connected to the negative  terminal of a current sense resistor connected in series  with the inductor", 9 SENSE2+ (in) "Positive Current Sense Comparator Input. The (+) input to the  current comparator is normally connected to the positive  terminal of a current sense resistor. The current sense resistor is normally placed at the input of the (See Datasheet)", 10 VFB (in) "Error Amplifier Feedback Input. This  pin receives the remotely sensed feedback voltage from  an external resistive divider connected across the output.", 11 ITH "Current Control Threshold and Error  Amplifier Compensation Point. The voltage on this pin sets  the current trip threshold.", 12 NC "No Connect.", 13 SW2 "Switch Node.  Connect to the source of the synchronous N-channel  MOSFET, the drain of the main N-channel MOSFET and  the inductor", 14 TG2 (out) "Top Gate. Connect to the gate of the synchronous N-channel MOSFET", 15 BOOST2 "Floating power supply for the synchronous N-channel MOSFET.  Bypass to SW with a capacitor and supply with a Schottky  diode connected to INTVCC.", 16 BG2 (out) "Bottom Gate.  Connect to the gate of the main N-channel MOSFET.", 17 INTVCC (power) "Output of Internal 5.4V LDO.  Power supply for control circuits and gate drivers. Decouple this pin to GND with a minimum 4.7uF low ESR  ceramic capacitor.", 18 EXTVCC (power) "External Power Input. When this  pin is between 4.8V and 6V, an internal switch bypasses  the internal regulator and supply power to INTVCC directly  from EXTVCC. Do not float this pin. It can be connected to  ground when (See Datasheet)", 19 PGND (power) "Driver Power Ground. Connects  to the sources of bottom (main) N-channel MOSFETs and  the (-) terminal(s) of CIN and COUT.", 20 VBIAS (power) "Main Supply Pin. It is normally  tied to the input supply VIN or to the output of the boost  converter. A bypass capacitor should be tied between this  pin and the signal ground pin. The operating voltage range  on this pin (See Datasheet)", 21 BG1 (out) "Bottom Gate.  Connect to the gate of the main N-channel MOSFET.", 22 BOOST1 "Floating power supply for the synchronous N-channel MOSFET.  Bypass to SW with a capacitor and supply with a Schottky  diode connected to INTVCC.", 23 TG1 (out) "Top Gate. Connect to the gate of the synchronous N-channel MOSFET", 24 SW1 "Switch Node.  Connect to the source of the synchronous N-channel  MOSFET, the drain of the main N-channel MOSFET and  the inductor", 25 PGOOD (oc) "Power Good Indicator. Open-drain  logic output that is pulled to ground when the output voltage is more than +/-10 % away from the regulated output  voltage. To avoid false trips the output voltage must be  outside the range (See Datasheet)", 26 ILIM (in) "Current Comparator Sense Voltage  Range Input. This pin is used to set the peak current  sense voltage in the current comparator. Connect this pin  to SGND, open, and INTVCC to set the peak current sense  voltage to 50mV, (See Datasheet)", 27 SENSE1+ (in) "Positive Current Sense Comparator Input. The (+) input to the  current comparator is normally connected to the positive  terminal of a current sense resistor. The current sense resistor is normally placed at the input of the (See Datasheet)", 28 SENSE1- (in) "Negative Current Sense Comparator Input. The (-) input to the  current comparator is normally connected to the negative  terminal of a current sense resistor connected in series  with the inductor", 29 EP (power) "Must  be soldered to the PCB for rated thermal performance."

## LTC3787MPGN#PBF
designator U?
2-Phase, Sync Boost Controller, 28-pin SOP (GN-28), -55 to 150 degC, Pb-Free; Manufacturer: Linear Technology; PartNumber: LTC3787MPGN#PBF; Frequency Sync Range: 75kHz - 850kHz; Number of Outputs: 1; DatasheetVersion: Rev. C; PackageVersion: Rev. B, 03/2012; PackageReference: GN-28; PackageDescription: 28-Pin Plastic SSOP, Body 9.9 x 3.9 mm, Pitch 0.635 mm; Supplier 1: Digi-Key; Supplier Part Number 1: LTC3787MPGN#PBF-ND; RoHS: TRUE; Mounting Technology: Surface Mount; ComponentLink1Description: Manufacturer URL; ComponentLink1URL: http://www.linear.com/; ComponentLink2Description: Datasheet; ComponentLink2URL: http://cds.linear.com/docs/en/datasheet/3787fc.pdf; ComponentLink3Description: Package Specification; ComponentLink3URL: http://cds.linear.com/docs/en/packaging/05081641_B_GN28.pdf
footprint LT-GN-28_N (SOP, 28-Leads, Body 9.98x3.98mm, Pitch 0.635mm, IPC Medium Density)
footprint LT-GN-28_L (SOP, 28-Leads, Body 9.98x3.98mm, Pitch 0.635mm, IPC High Density)
footprint LT-GN-28_M (SOP, 28-Leads, Body 9.98x3.98mm, Pitch 0.635mm, IPC Low Density)
pins: 1 ILIM (in) "Current Comparator Sense Voltage Range Input. This pin is used to set the peak current sense voltage in the current comparator. Connect this pin to SGND, open, and INTVCC to set the peak current sense voltage to 50mV, 75mV (See Datasheet)", 2 SENSE1+ (in) "Positive Current Sense Comparator Input. The (+) input to the current comparator is normally connected to the positive terminal of a current sense resistor. The current sense resistor is normally placed at the input of the (See Datasheet)", 3 SENSE1- (in) "Negative Current Sense Comparator Input. The (-) input to the current comparator is normally connected to the negative terminal of a current sense resistor connected in series with the inductor.", 4 FREQ (in) "Frequency Control Pin for the Internal VCO. Connecting the pin to GND forces the VCO to a fixed low frequency of 350kHz. Connecting the pin to INTVCC forces the VCO to a fixed high frequency of 535kHz. The frequency can be (See Datasheet)", 5 PHASMD (in) "This pin can be floated, tied to SGND, or tied to INTVCC to program the phase relationship between the rising edges of BG1 and BG2, as well as the phase relationship between BG1 and CLKOUT.", 6 CLKOUT (out) "A Digital Output Used for Daisychaining Multiple LTC3787 ICs in Multiphase Systems. The PHASMD pin voltage controls the relationship between BG1 and CLKOUT. This pin swings between SGND and INTVCC.", 7 PLLIN/MODE (in), 8 SGND (power) "Signal Ground. All small-signal components and compensation components should connect to this ground, which in turn connects to PGND at a single point.", 9 RUN (in) "Run Control Input. Forcing this pin below 1.28V shuts down the controller. Forcing this pin below 0.7V shuts down the entire LTC3787, reducing quiescent current to approximately 8uA. An external resistor divider connected to (See Datasheet)", 10 SS (in) "Output Soft-Start Input. A capacitor to ground at this pin sets the ramp rate of the output voltage during start-up.", 11 SENSE2- (in) "Negative Current Sense Comparator Input. The (-) input to the current comparator is normally connected to the negative terminal of a current sense resistor connected in series with the inductor.", 12 SENSE2+ (in) "Positive Current Sense Comparator Input. The (+) input to the current comparator is normally connected to the positive terminal of a current sense resistor. The current sense resistor is normally placed at the input of the (See Datasheet)", 13 VFB (in) "Error Amplifier Feedback Input. This pin receives the remotely sensed feedback voltage from an external resistive divider connected across the output.", 14 ITH "Current Control Threshold and Error Amplifier Compensation Point. The voltage on this pin sets the current trip threshold.", 15 NC "No Connect.", 16 SW2 "Switch Node. Connect to the source of the synchronous N-channel MOSFET, the drain of the main N-channel MOSFET and the inductor.", 17 TG2 (out) "Top Gate. Connect to the gate of the synchronous N-channel MOSFET.", 18 BOOST2 "Floating power supply for the synchronous N-channel MOSFET. Bypass to SW with a capacitor and supply with a Schottky diode connected to INTVCC.", 19 BG2 (out) "Bottom Gate. Connect to the gate of the main N-channel MOSFET.", 20 INTVCC (power) "Output of Internal 5.4V LDO. Power supply for control circuits and gate drivers. Decouple this pin to GND with a minimum 4.7uF low ESR ceramic capacitor.", 21 EXTVCC (power) "External Power Input. When this pin is between 4.8V and 6V, an internal switch bypasses the internal regulator and supply power to INTVCC directly from EXTVCC. Do not float this pin. It can be connected to ground when not (See Datasheet)", 22 PGND (power) "Driver Power Ground. Connects to the sources of bottom (main) N-channel MOSFETs and the (-) terminal(s) of CIN and COUT.", 23 VBIAS (power) "Main Supply Pin. It is normally tied to the input supply VIN or to the output of the boost converter. A bypass capacitor should be tied between this pin and the signal ground pin. The operating voltage range on this pin is 4.(See Datasheet)", 24 BG1 (out) "Bottom Gate. Connect to the gate of the main N-channel MOSFET.", 25 BOOST1 "Floating power supply for the synchronous N-channel MOSFET. Bypass to SW with a capacitor and supply with a Schottky diode connected to INTVCC.", 26 TG1 (out) "Top Gate. Connect to the gate of the synchronous N-channel MOSFET.", 27 SW1 "Switch Node. Connect to the source of the synchronous N-channel MOSFET, the drain of the main N-channel MOSFET and the inductor.", 28 PGOOD (oc) "Power Good Indicator. Open-drain logic output that is pulled to ground when the output voltage is more than +/-10 % away from the regulated output voltage. To avoid false trips the output voltage must be outside the range (See Datasheet)"

## LTC3787MPGN#TRPBF
designator U?
2-Phase, Sync Boost Controller, 28-pin SOP (GN-28), -55 to 150 degC, Pb-Free, Tape and Reel; Manufacturer: Linear Technology; PartNumber: LTC3787MPGN#TRPBF; Frequency Sync Range: 75kHz - 850kHz; Number of Outputs: 1; DatasheetVersion: Rev. C; PackageVersion: Rev. B, 03/2012; PackageReference: GN-28; PackageDescription: 28-Pin Plastic SSOP, Body 9.9 x 3.9 mm, Pitch 0.635 mm; Supplier 1: Digi-Key; Supplier Part Number 1: LTC3787MPGN#TRPBF-ND; Packing: Tape and Reel; RoHS: TRUE; Mounting Technology: Surface Mount; ComponentLink1Description: Manufacturer URL; ComponentLink1URL: http://www.linear.com/; ComponentLink2Description: Datasheet; ComponentLink2URL: http://cds.linear.com/docs/en/datasheet/3787fc.pdf; ComponentLink3Description: Package Specification; ComponentLink3URL: http://cds.linear.com/docs/en/packaging/05081641_B_GN28.pdf
footprint LT-GN-28_N (SOP, 28-Leads, Body 9.98x3.98mm, Pitch 0.635mm, IPC Medium Density)
footprint LT-GN-28_L (SOP, 28-Leads, Body 9.98x3.98mm, Pitch 0.635mm, IPC High Density)
footprint LT-GN-28_M (SOP, 28-Leads, Body 9.98x3.98mm, Pitch 0.635mm, IPC Low Density)
pins: 1 ILIM (in) "Current Comparator Sense Voltage Range Input. This pin is used to set the peak current sense voltage in the current comparator. Connect this pin to SGND, open, and INTVCC to set the peak current sense voltage to 50mV, 75mV (See Datasheet)", 2 SENSE1+ (in) "Positive Current Sense Comparator Input. The (+) input to the current comparator is normally connected to the positive terminal of a current sense resistor. The current sense resistor is normally placed at the input of the (See Datasheet)", 3 SENSE1- (in) "Negative Current Sense Comparator Input. The (-) input to the current comparator is normally connected to the negative terminal of a current sense resistor connected in series with the inductor.", 4 FREQ (in) "Frequency Control Pin for the Internal VCO. Connecting the pin to GND forces the VCO to a fixed low frequency of 350kHz. Connecting the pin to INTVCC forces the VCO to a fixed high frequency of 535kHz. The frequency can be (See Datasheet)", 5 PHASMD (in) "This pin can be floated, tied to SGND, or tied to INTVCC to program the phase relationship between the rising edges of BG1 and BG2, as well as the phase relationship between BG1 and CLKOUT.", 6 CLKOUT (out) "A Digital Output Used for Daisychaining Multiple LTC3787 ICs in Multiphase Systems. The PHASMD pin voltage controls the relationship between BG1 and CLKOUT. This pin swings between SGND and INTVCC.", 7 PLLIN/MODE (in), 8 SGND (power) "Signal Ground. All small-signal components and compensation components should connect to this ground, which in turn connects to PGND at a single point.", 9 RUN (in) "Run Control Input. Forcing this pin below 1.28V shuts down the controller. Forcing this pin below 0.7V shuts down the entire LTC3787, reducing quiescent current to approximately 8uA. An external resistor divider connected to (See Datasheet)", 10 SS (in) "Output Soft-Start Input. A capacitor to ground at this pin sets the ramp rate of the output voltage during start-up.", 11 SENSE2- (in) "Negative Current Sense Comparator Input. The (-) input to the current comparator is normally connected to the negative terminal of a current sense resistor connected in series with the inductor.", 12 SENSE2+ (in) "Positive Current Sense Comparator Input. The (+) input to the current comparator is normally connected to the positive terminal of a current sense resistor. The current sense resistor is normally placed at the input of the (See Datasheet)", 13 VFB (in) "Error Amplifier Feedback Input. This pin receives the remotely sensed feedback voltage from an external resistive divider connected across the output.", 14 ITH "Current Control Threshold and Error Amplifier Compensation Point. The voltage on this pin sets the current trip threshold.", 15 NC "No Connect.", 16 SW2 "Switch Node. Connect to the source of the synchronous N-channel MOSFET, the drain of the main N-channel MOSFET and the inductor.", 17 TG2 (out) "Top Gate. Connect to the gate of the synchronous N-channel MOSFET.", 18 BOOST2 "Floating power supply for the synchronous N-channel MOSFET. Bypass to SW with a capacitor and supply with a Schottky diode connected to INTVCC.", 19 BG2 (out) "Bottom Gate. Connect to the gate of the main N-channel MOSFET.", 20 INTVCC (power) "Output of Internal 5.4V LDO. Power supply for control circuits and gate drivers. Decouple this pin to GND with a minimum 4.7uF low ESR ceramic capacitor.", 21 EXTVCC (power) "External Power Input. When this pin is between 4.8V and 6V, an internal switch bypasses the internal regulator and supply power to INTVCC directly from EXTVCC. Do not float this pin. It can be connected to ground when not (See Datasheet)", 22 PGND (power) "Driver Power Ground. Connects to the sources of bottom (main) N-channel MOSFETs and the (-) terminal(s) of CIN and COUT.", 23 VBIAS (power) "Main Supply Pin. It is normally tied to the input supply VIN or to the output of the boost converter. A bypass capacitor should be tied between this pin and the signal ground pin. The operating voltage range on this pin is 4.(See Datasheet)", 24 BG1 (out) "Bottom Gate. Connect to the gate of the main N-channel MOSFET.", 25 BOOST1 "Floating power supply for the synchronous N-channel MOSFET. Bypass to SW with a capacitor and supply with a Schottky diode connected to INTVCC.", 26 TG1 (out) "Top Gate. Connect to the gate of the synchronous N-channel MOSFET.", 27 SW1 "Switch Node. Connect to the source of the synchronous N-channel MOSFET, the drain of the main N-channel MOSFET and the inductor.", 28 PGOOD (oc) "Power Good Indicator. Open-drain logic output that is pulled to ground when the output voltage is more than +/-10 % away from the regulated output voltage. To avoid false trips the output voltage must be outside the range (See Datasheet)"